# Altium schematic symbol library Crys_Abracon_AWSCR-8.00CV-T_eec.SchLib: 1 symbol
Pins are listed as number, name and electrical type; pins without a type are passive.

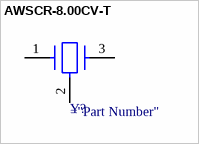
[diagram p0: symbol AWSCR-8.00CV-T]

## AWSCR-8.00CV-T
designator Y?  (value not drawn)
pins: 1 INPUT, 2 GROUND, 3 OUTPUT